# EAGLE library part 6270XX21721_62703421721 (library WR-BHD)
WR-BHD 1.27 mm Male Angled Box Header KIND PROPERTIES: Pitch 1.27 mm Gender:Male MATERIAL PROPERTIES: Insulator Material Nylon 9T Insulator Flammability Rating UL94 V-0 Insulator Color Black Contact Material Brass Contact Plating Gold over Nickel GENERAL INFORMATION: Operating Temperature -40 up to +105 °C Working Voltage 50 V (AC) Withstanding Voltage 500 V (AC) Contact Resistance 20 mΩ RISO 1000 MΩ CERTIFICATION: UL Approval E323964 <https://www.we-online.com/catalog/media/o375402v209%20Family_WR-BHD_6270xx21721.jpg> Details see: https://www.we-online.com/catalog/en/WR_BHD_1_27_MM_MALE_ANGLED_BOX_HEADER Updated by Ella Wu 2022-03-02 2022 (C) Würth Elektronik
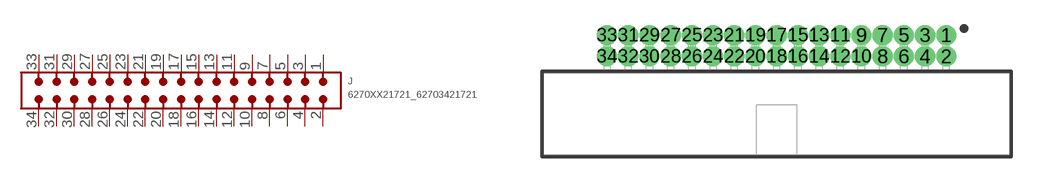
[diagram p178: symbol with the pads of 62703421721; footprint 62703421721]

Designator prefix J

## 6270XX21721_62703421721 (CONTACT-RESISTANCE: 20mOhm; DATASHEET-URL: https://www.we-online.com/redexpert/spec/62703421721?ae; GENDER: Male; IR: 1A; LENGTH: 27.94mm; MOUNT: THT; PART-NUMBER: 62703421721; PINS: 34; PITCH: 1.27mm; TYPE: Angled; VALUE: 62703421721; WORKING-VOLTAGE: 50V(AC))  [62703421721]
1  1  pas
2  2  pas
3  3  pas
4  4  pas
5  5  pas
6  6  pas
7  7  pas
8  8  pas
9  9  pas
10  10  pas
11  11  pas
12  12  pas
13  13  pas
14  14  pas
15  15  pas
16  16  pas
17  17  pas
18  18  pas
19  19  pas
20  20  pas
21  21  pas
22  22  pas
23  23  pas
24  24  pas
25  25  pas
26  26  pas
27  27  pas
28  28  pas
29  29  pas
30  30  pas
31  31  pas
32  32  pas
33  33  pas
34  34  pas

## Footprint 62703421721 (pad centres in mm)
WR-BHD 1,27mm Male THT Box Header Right angle, 34Pins
drill 0.7 pad 1.05: 1 10.16,4.72; 2 10.16,3.45; 3 8.89,4.72; 4 8.89,3.45; 5 7.62,4.72; 6 7.62,3.45; 7 6.35,4.72; 8 6.35,3.45; 9 5.08,4.72; 10 5.08,3.45; 11 3.81,4.72; 12 3.81,3.45; 13 2.54,4.72; 14 2.54,3.45; 15 1.27,4.72; 16 1.27,3.45; 17 0,4.72; 18 0,3.45; 19 -1.27,4.72; 20 -1.27,3.45; 21 -2.54,4.72; 22 -2.54,3.45; 23 -3.81,4.72; 24 -3.81,3.45; 25 -5.08,4.72; 26 -5.08,3.45; 27 -6.35,4.72; 28 -6.35,3.45; 29 -7.62,4.72; 30 -7.62,3.45; 31 -8.89,4.72; 32 -8.89,3.45; 33 -10.16,4.72; 34 -10.16,3.45